# Altium integrated library Amphenol RF Coaxial MMCX.IntLib: 14 symbols
Pins are listed as number, name and electrical type; pins without a type are passive.

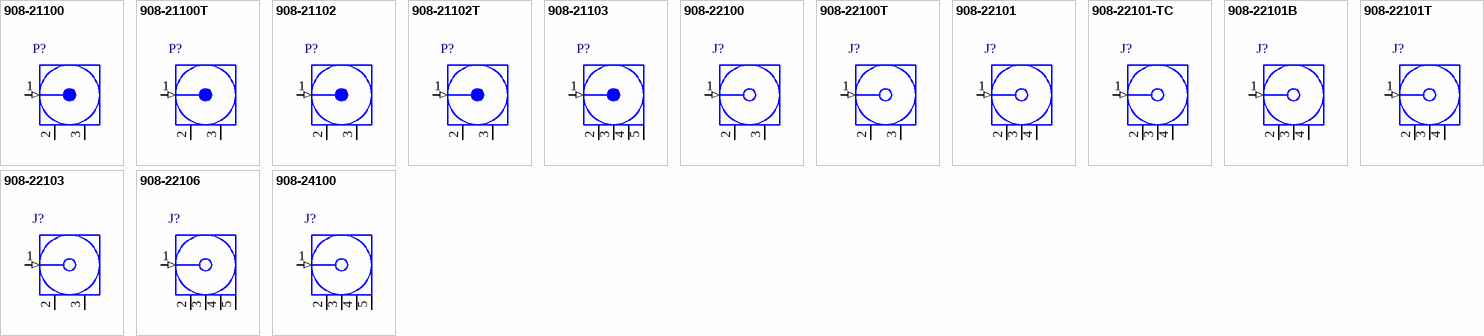
[diagram p0: symbols 908-21100 to 908-24100]

## 908-21100
designator P?
MMCX RF Coaxial PCB Connector, Thru-Hole, Edgecard/Vertical Mount Plug, 50 Ohm Impedance; PackageDocument: Rev. C, 9-May-2001; Note: PCB layout for vertical mounting provided.; PCB_Layout: Complies with manufacturer's recommendation.; DrillSize: Corresponds to nominal value.; Published: 15-Jul-2004; DatasheetDocument: 30-May-2003; PackageReference: 908-21100; Publisher: Altium Limited; ComponentLink1Description: Manufacturer Link; ComponentLink1URL: http://www.amphenolrf.com/; ComponentLink2Description: Datasheet; ComponentLink2URL: http://www.amphenolrf.com/pdf/9.pdf
footprint 908-21100 (Connector; RF Coaxial, MMCX, Thru-Hole; 3 Position; Vertical)
pins: 1 Signal (in) "Signal Pin", 2 GND (power), 3 GND (power)

## 908-21100T
designator P?
MMCX RF Coaxial PCB Connector, Thru-Hole, Edgecard/Vertical Mount Plug, 50 Ohm Impedance, Tape and Reel; Note: PCB layout for edgecard mounting provided.; PCB_Layout: Complies with manufacturer's recommendation.; DrillSize: Corresponds to nominal value.; Published: 15-Jul-2004; DatasheetDocument: 30-May-2003; PackageDocument: 30-May-2003; PackageReference: 908-21100T; Publisher: Altium Limited; ComponentLink1Description: Manufacturer Link; ComponentLink1URL: http://www.amphenolrf.com/; ComponentLink2Description: Datasheet; ComponentLink2URL: http://www.amphenolrf.com/pdf/9.pdf
footprint 908-21100T (Connector; RF Coaxial, MMCX, Thru-Hole; 3 Position; Edgecard)
pins: 1 Signal (in) "Signal Pin", 2 GND (power), 3 GND (power)

## 908-21102
designator P?
MMCX RF Coaxial PCB Connector, Thru-Hole, Edgecard Mount Plug - Offset,  50 Ohm Impedance; PackageDocument: Rev. C, 21-Feb-2001; PCB_Layout: Complies with manufacturer's recommendation.; DrillSize: Corresponds to nominal value.; Published: 15-Jul-2004; DatasheetDocument: 30-May-2003; PackageReference: 908-21102; Publisher: Altium Limited; ComponentLink1Description: Manufacturer Link; ComponentLink1URL: http://www.amphenolrf.com/; ComponentLink2Description: Datasheet; ComponentLink2URL: http://www.amphenolrf.com/pdf/9.pdf
footprint 908-21102 (Connector; RF Coaxial, MMCX, Thru-Hole; 3 Position; Edgecard)
pins: 1 Signal (in) "Signal Pin", 2 GND (power), 3 GND (power)

## 908-21102T
designator P?
MMCX RF Coaxial PCB Connector, Thru-Hole, Edgecard Mount Plug - Offset, 50 Ohm Impedance, Tape and Reel; PCB_Layout: Complies with manufacturer's recommendation.; DrillSize: Corresponds to nominal value.; Published: 15-Jul-2004; DatasheetDocument: 30-May-2003; PackageDocument: 30-May-2003; PackageReference: 908-21102T; Publisher: Altium Limited; ComponentLink1Description: Manufacturer Link; ComponentLink1URL: http://www.amphenolrf.com/
footprint 908-21102T (Connector; RF Coaxial, MMCX, Thru-Hole; 3 Position; Edgecard)
pins: 1 Signal (in) "Signal Pin", 2 GND (power), 3 GND (power)

## 908-21103
designator P?
MMCX RF Coaxial PCB Connector, Thru-Hole, Vertical Mount Plug,  50 Ohm Impedance; PackageDocument: Rev. A, 16-Jun-1997; PCB_Layout: Complies with manufacturer's recommendation.; DrillSize: Corresponds to nominal value.; Published: 15-Jul-2004; DatasheetDocument: 30-May-2003; PackageReference: 908-21103; Publisher: Altium Limited; ComponentLink1Description: Manufacturer Link; ComponentLink1URL: http://www.amphenolrf.com/; ComponentLink2Description: Datasheet; ComponentLink2URL: http://www.amphenolrf.com/pdf/11.pdf
footprint 908-21103 (Connector; RF Coaxial, MMCX, Thru-Hole; 5 Position; Vertical)
pins: 1 Signal (in) "Signal Pin", 2 GND (power), 3 GND (power), 4 GND (power), 5 GND (power)

## 908-22100
designator J?
MMCX RF Coaxial PCB Connector, Thru-Hole, Edgecard/Vertical Mount Socket, 50 Ohm Impedance; PackageDocument: Rev. C, 21-Feb-2001; Note: PCB layout for vertical mounting provided.; PCB_Layout: Complies with manufacturer's recommendation.; DrillSize: Corresponds to nominal value.; Published: 15-Jul-2004; DatasheetDocument: 30-May-2003; PackageReference: 908-22100; Publisher: Altium Limited; ComponentLink1Description: Manufacturer Link; ComponentLink1URL: http://www.amphenolrf.com/; ComponentLink2Description: Datasheet; ComponentLink2URL: http://www.amphenolrf.com/pdf/9.pdf
footprint 908-22100 (Connector; RF Coaxial, MMCX, Thru-Hole; 3 Position; Vertical)
pins: 1 Signal (in) "Signal Pin", 2 GND (power), 3 GND (power)

## 908-22100T
designator J?
MMCX RF Coaxial PCB Connector, Thru-Hole, Edgecard/Vertical Mount Socket, 50 Ohm Impedance, Tape and Reel; Note: PCB layout for edgecard mounting provided.; PCB_Layout: Complies with manufacturer's recommendation.; DrillSize: Corresponds to nominal value.; Published: 15-Jul-2004; DatasheetDocument: 30-May-2003; PackageDocument: 30-May-2003; PackageReference: 908-22100T; Publisher: Altium Limited; ComponentLink1Description: Manufacturer Link; ComponentLink1URL: http://www.amphenolrf.com/; ComponentLink2Description: Datasheet; ComponentLink2URL: http://www.amphenolrf.com/pdf/9.pdf
footprint 908-22100T (Connector; RF Coaxial, MMCX, Thru-Hole; 3 Position; Edgecard)
pins: 1 Signal (in) "Signal Pin", 2 GND (power), 3 GND (power)

## 908-22101
designator J?
MMCX RF Coaxial PCB Connector, SM, Vertical Mount Socket, 50 Ohm Impedance, Single Packed; PackageDocument: Rev. A, 7-May-1997; PCB_Layout: Complies with manufacturer's recommendation.; DrillSize: Corresponds to nominal value.; Published: 15-Jul-2004; DatasheetDocument: 30-May-2003; PackageReference: 908-22101; Publisher: Altium Limited; ComponentLink1Description: Manufacturer Link; ComponentLink1URL: http://www.amphenolrf.com/; ComponentLink2Description: Datasheet; ComponentLink2URL: http://www.amphenolrf.com/pdf/7.pdf
footprint 908-22101 (Connector; RF Coaxial, MMCX, SM; 4 Position; Vertical)
pins: 1 Signal (in) "Signal Pin", 2 GND (power), 3 GND (power), 4 GND (power)

## 908-22101-TC
designator J?
MMCX RF Coaxial PCB Connector, SM, Vertical Mount Socket, 50 Ohm Impedance, Tape and Reel with Cap; PackageDocument: Rev. B, 4-Aug-1999; PCB_Layout: Complies with manufacturer's recommendation.; DrillSize: Corresponds to nominal value.; Published: 15-Jul-2004; DatasheetDocument: 30-May-2003; PackageReference: 908-22101; Publisher: Altium Limited; ComponentLink1Description: Manufacturer Link; ComponentLink1URL: http://www.amphenolrf.com/; ComponentLink2Description: Datasheet; ComponentLink2URL: http://www.amphenolrf.com/pdf/7.pdf
footprint 908-22101 (Connector; RF Coaxial, MMCX, SM; 4 Position; Vertical)
pins: 1 Signal (in) "Signal Pin", 2 GND (power), 3 GND (power), 4 GND (power)

## 908-22101B
designator J?
MMCX RF Coaxial PCB Connector, SM, Vertical Mount Socket, 50 Ohm Impedance, Bulk Packed; PackageDocument: Rev. A, 7-May-1997; PCB_Layout: Complies with manufacturer's recommendation.; DrillSize: Corresponds to nominal value.; Published: 15-Jul-2004; DatasheetDocument: 30-May-2003; PackageReference: 908-22101; Publisher: Altium Limited; ComponentLink1Description: Manufacturer Link; ComponentLink1URL: http://www.amphenolrf.com/; ComponentLink2Description: Datasheet; ComponentLink2URL: http://www.amphenolrf.com/pdf/7.pdf
footprint 908-22101 (Connector; RF Coaxial, MMCX, SM; 4 Position; Vertical)
pins: 1 Signal (in) "Signal Pin", 2 GND (power), 3 GND (power), 4 GND (power)

## 908-22101T
designator J?
MMCX RF Coaxial PCB Connector, SM, Vertical Mount Socket, 50 Ohm Impedance, Tape and Reel; PackageDocument: Rev. A, 7-May-1997; PCB_Layout: Complies with manufacturer's recommendation.; DrillSize: Corresponds to nominal value.; Published: 15-Jul-2004; DatasheetDocument: 30-May-2003; PackageReference: 908-22101; Publisher: Altium Limited; ComponentLink1Description: Manufacturer Link; ComponentLink1URL: http://www.amphenolrf.com/; ComponentLink2Description: Datasheet; ComponentLink2URL: http://www.amphenolrf.com/pdf/7.pdf
footprint 908-22101 (Connector; RF Coaxial, MMCX, SM; 4 Position; Vertical)
pins: 1 Signal (in) "Signal Pin", 2 GND (power), 3 GND (power), 4 GND (power)

## 908-22103
designator J?
MMCX RF Coaxial PCB Connector, Thru-Hole, Edgecard Mount Socket - Offset, 50 Ohm Impedance; PCB_Layout: Complies with manufacturer's recommendation.; DrillSize: Corresponds to nominal value.; Published: 15-Jul-2004; DatasheetDocument: 30-May-2003; PackageDocument: 30-May-2003; PackageReference: 908-22103; Publisher: Altium Limited; ComponentLink1Description: Manufacturer Link; ComponentLink1URL: http://www.amphenolrf.com/; ComponentLink2Description: Datasheet; ComponentLink2URL: http://www.amphenolrf.com/pdf/9.pdf
footprint 908-22103 (Connector; RF Coaxial, MMCX, Thru-Hole; 3 Position; Edgecard)
pins: 1 Signal (in) "Signal Pin", 2 GND (power), 3 GND (power)

## 908-22106
designator J?
MMCX RF Coaxial PCB Connector, Thru-Hole, Vertical Mount Socket,  50 Ohm Impedance; PackageDocument: Rev. A, 13-Dec-2001; PCB_Layout: Complies with manufacturer's recommendation.; DrillSize: Corresponds to nominal value.; Published: 15-Jul-2004; DatasheetDocument: 30-May-2003; PackageReference: 908-22106; Publisher: Altium Limited; ComponentLink1Description: Manufacturer Link; ComponentLink1URL: http://www.amphenolrf.com/; ComponentLink2Description: Datasheet; ComponentLink2URL: http://www.amphenolrf.com/pdf/11.pdf
footprint 908-22106 (Connector; RF Coaxial, MMCX, Thru-Hole; 5 Position; Vertical)
pins: 1 Signal (in) "Signal Pin", 2 GND (power), 3 GND (power), 4 GND (power), 5 GND (power)

## 908-24100
designator J?
MMCX RF Coaxial PCB Connector, Thru-Hole, Right-Angle Mount Socket, 50 Ohm Impedance; PackageDocument: Rev. A, 25-Jul-1997; PCB_Layout: Complies with manufacturer's recommendation.; DrillSize: Corresponds to nominal value.; Published: 15-Jul-2004; DatasheetDocument: 30-May-2003; PackageReference: 908-24100; Publisher: Altium Limited; ComponentLink1Description: Manufacturer Link; ComponentLink1URL: http://www.amphenolrf.com/; ComponentLink2Description: Datasheet; ComponentLink2URL: http://www.amphenolrf.com/pdf/11.pdf
footprint 908-24100 (Connector; RF Coaxial, MMCX, Thru-Hole; 5 Position; Right Angle)
pins: 1 Signal (in) "Signal Pin", 2 GND (power), 3 GND (power), 4 GND (power), 5 GND (power)